# EAGLE library part 47642-0001 (library 47642-0001)
Micro-USB B Receptacle, Mid-Mount, with Through Hole Solder Tab, Gold (Au) Flash Plating, without Mylar, Lead-Free
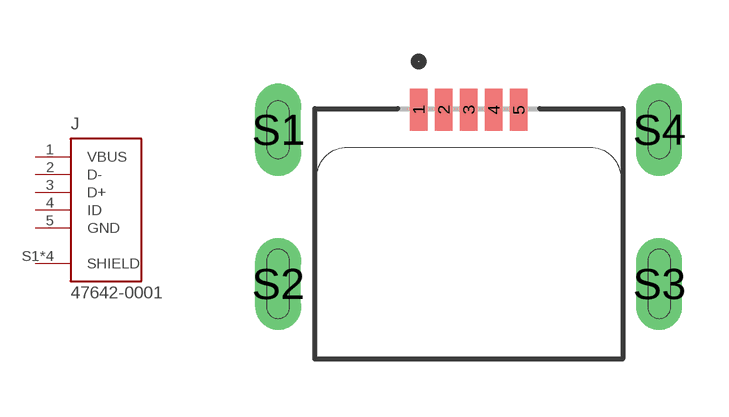
[diagram p0: symbol with the pads of MOLEX_47642-0001; footprint MOLEX_47642-0001]

Designator prefix J

## 47642-0001 (AVAILABILITY: Unavailable; DESCRIPTION: USB - micro B Receptacle Connector 5 Position Board Edge, Cutout; Surface Mount, Right Angle; MF: Molex; MP: 47642-0001; PACKAGE: None; PRICE: None)  [MOLEX_47642-0001]
1  VBUS  pwr
2  D-
3  D+
4  ID
5  GND  pwr
S1  SHIELD  pwr
S2  SHIELD  pwr
S3  SHIELD  pwr
S4  SHIELD  pwr

## Footprint MOLEX_47642-0001 (pad centres in mm)
smd 0.45 x 1.1: 1 -1.3,0; 2 -0.65,0; 3 0,0; 4 0.65,0; 5 1.3,0
drill 0.6 pad 1.2 long: S1 -4.95,-0.52; S2 -4.95,-4.52; S3 4.95,-4.52; S4 4.95,-0.52